# Altium integrated library transistor_drivers.IntLib: 2 symbols
Pins are listed as number, name and electrical type; pins without a type are passive.

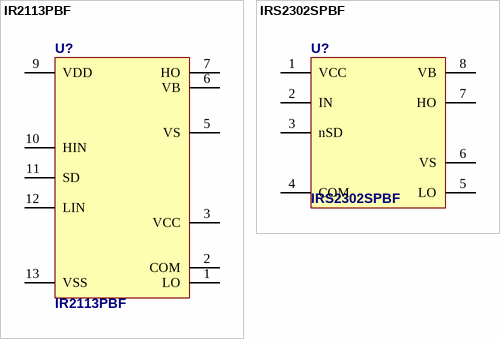
[diagram p0: symbols IR2113PBF to IRS2302SPBF]

## IR2113PBF
designator U?
High and low side transistor driver
footprint DIP14
pins: 1 LO (power), 2 COM (power), 3 VCC (power), 5 VS (power), 6 VB (power), 7 HO (power), 9 VDD (power), 10 HIN (power), 11 SD (power), 12 LIN (power), 13 VSS (power)

## IRS2302SPBF
designator U?
Half bridge driver
footprint SO8 (Small Outline; 8 Leads; Body Width 3.7 mm; Pitch 1.27 mm)
pins: 1 VCC (power), 2 IN (power), 3 nSD (power), 4 COM (power), 5 LO (power), 6 VS (power), 7 HO (power), 8 VB (power)